# Altium schematic symbol library SN74AHCT1G04DBVR.SchLib: 1 symbol
Pins are listed as number, name and electrical type; pins without a type are passive.

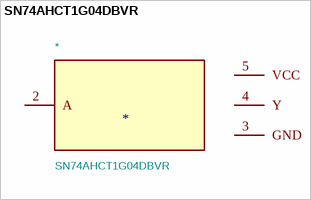
[diagram p0: symbol SN74AHCT1G04DBVR]

## SN74AHCT1G04DBVR
designator *  value SN74AHCT1G04DBVR
\n                        \n                            Single 4.5-V to 5.5-V inverter with TTL-compatible CMOS inputs\n                        \n; MF: Texas Instruments; Footprint: SN74AHCT1G04DBVR:SOT95P280X145-5N; Description_: \n                        \n                            Single 4.5-V to 5.5-V inverter with TTL-compatible CMOS inputs\n                        \n; Package: SOT-23-5 Texas Instruments; Price: None; SnapEDA_Link: https://www.snapeda.com/parts/SN74AHCT1G04DBVR/Texas+Instruments/view-part/?ref=snap; MP: SN74AHCT1G04DBVR; Availability: In Stock; Check_prices: https://www.snapeda.com/parts/SN74AHCT1G04DBVR/Texas+Instruments/view-part/?ref=eda
footprint SOT95P280X145-5N
pins: 2 A, 3 GND, 4 Y, 5 VCC